# Altium footprint library Varistor.PcbLib: 15 footprints
Each footprint in its own frame and in the unit in brackets; x right, y up, seen from the top. Pads: shape width x height; smd on the part's side, far side on the other; paste and mask are expansions set on the pad; w line width, h text height; cw(c..) or ccw(c..) is an arc to the next point about the centre after c.
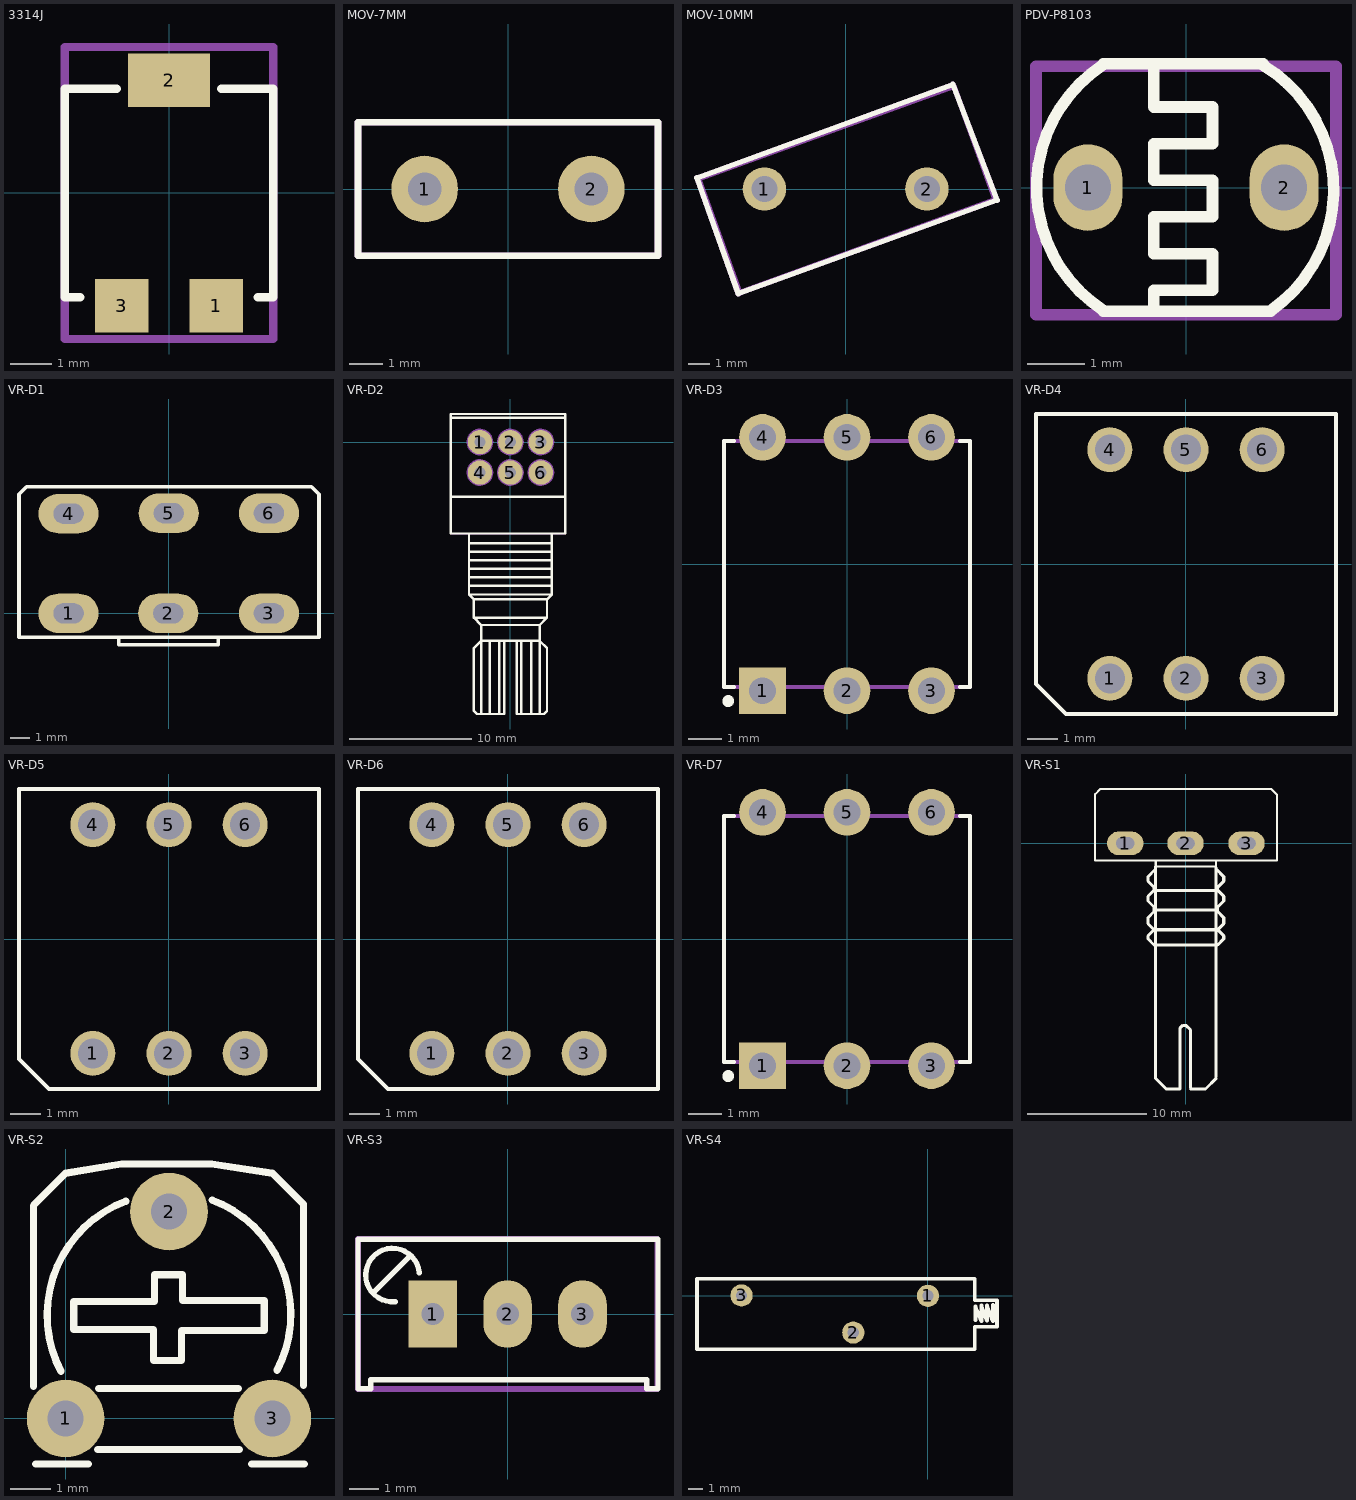
[diagram p0: the footprints below, top view; thin cyan lines are the x and y axes]

## 3314J [mm]
pads (3):
  rect 1.3x1.3 smd: 1(1.15,-2.75) 3(-1.15,-2.75)
  rect 2x1.3 smd: 2(0,2.75)
Top Overlay:
  lines w0.2: -2.159,-2.54 -2.54,-2.54 -2.54,2.54 -1.27,2.54 ; 1.27,2.54 2.54,2.54 2.54,-2.54 2.159,-2.54
Mechanical 13:
  lines w0.2: -2.54,-3.556 2.54,-3.556 2.54,3.556 -2.54,3.556 -2.54,-3.556
  text ".Designator" at -2.032,-0.254 h1.5
Mechanical 15:
  lines w0.2: -2.54,-3.556 -2.54,3.556 2.54,3.556 2.54,-3.556 -2.54,-3.556
  text ".Comment" at -2.032,-0.254 h1.5
3D body "3314J1.stp": height 2.9, standoff 0.18, extent -2.499,-2.502 2.5,2.502

## MOV-7MM [mm]
pads (2):
  round 2 hole 1: 1(-2.5,0) 2(2.5,0)
Top Overlay:
  lines w0.2: -4.5,-2 -4.5,2 4.5,2 4.5,-2 -4.5,-2
Mechanical 13:
  lines w0.2: -4.5,-2 4.5,-2 4.5,2 -4.5,2 -4.5,-2
  text ".Designator" at -4.3,-0.4 h2
3D body "mov-07d201k.stp": height 11.5, standoff -19.5, extent -4.637,-2.336 4.749,2.283

## MOV-10MM [mm]
pads (2):
  round 2 hole 1.2: 1(-3.75,0) 2(3.75,0)
Top Overlay:
  lines w0.254: -6.858,0.508 -4.953,-4.826 6.985,-0.508 4.953,4.826 -6.858,0.508
Mechanical 13:
  lines w0.254: -6.795,0.475 4.996,4.745 6.887,-0.483 -4.893,-4.784 ; -6.778,0.427 -4.886,-4.801
  text ".Designator" at -5.461,-0.762 h2
Mechanical 15:
  lines w0.254: -6.858,0.508 -4.953,-4.826 6.985,-0.508 4.953,4.826 -6.858,0.508
  text ".Comment" at -5.461,-0.762 h2
3D body "mov-10d511k.stp": height 15.75, standoff -19.75, extent -6.762,-4.766 6.865,4.678

## PDV-P8103 [mm]
pads (2):
  oval 1.2x1.5 hole 0.8: 1(-1.7,0) 2(1.7,0)
Top Overlay:
  lines w0.2: -1.435,-2.145 1.468,-2.145 ; -1.435,-2.128 cw(c-0.049,0) -1.435,2.128 ; -1.435,2.145 1.335,2.145 ; -0.557,-2.145 -0.557,-1.778 0.459,-1.778 0.459,-1.143 -0.557,-1.143 -0.557,-0.508 0.459,-0.508 0.459,0.127 -0.557,0.127 -0.557,0.762 0.459,0.762 0.459,1.397 -0.557,1.397 -0.557,2.145 ; 1.335,2.124 cw(c0.019,-0.049) 1.468,-2.135
Mechanical 13:
  lines w0.2: -2.6,-2.2 2.6,-2.2 2.6,2.1 -2.6,2.1 -2.6,-2.2
  text ".Designator" at -2.6,-0.5 h1.5
Mechanical 15:
  lines w0.2: -2.6,-2.2 -2.6,2.1 2.6,2.1 2.6,-2.2 -2.6,-2.2
  text ".Comment" at -2.6,-0.5 h1.5
3D body "User Library-Part7.step": height 2.24, standoff -2.5, extent -2.605,-2.2 2.605,2.1

## VR-D1 [mil] "Volume control Dual"
height 400
pads (6):
  oval 120x78.74 hole 40 slot 60 at 0 deg: 1(-200,0) 2(-1,0) 3(200,0) 4(-200,199) 5(0,200) 6(200,200)
Top Overlay:
  lines w7: -100,-48 -100,-63 99,-63 99,-48 ; -299,-48 -299,238 -284,253 285,253 300,238 300,-48 -299,-48
3D body "SW3dPS-ALPHA-potentiometer stereo PCB mount.STEP": height 834.65, standoff -129.92, extent -338.65,-1309.27 330.65,299

## VR-D2 [mm]
height 11.3
pads (6):
  round 2 hole 0.9: 1(-2.5,0) 2(0,0) 3(2.5,0) 4(-2.5,-2.5) 5(0,-2.5) 6(2.5,-2.5)
Top Overlay:
  lines w0.2: -4.9,-4.5 4.5,-4.5 ; -4.9,2 4.5,2 ; -3.4,-11.8 3.4,-11.8 3.4,-12.5 ; -3.4,-11.1 3.4,-11.1 ; -3.4,-10.4 3.4,-10.4 ; -3.4,-9.7 3.4,-9.7 ; -3.4,-9 3.4,-9 ; -3.4,-8.3 3.4,-8.3 ; -3.4,-7.5 -3.4,-12.5 ; -2.4,-22.3 -2.4,-16.3 ; -1.7,-22.3 -1.7,-16.3 ; -0.9,-22.3 -0.9,-16.3 ; -0.5,-16.3 -0.5,-22.3 -2.75,-22.3 -3,-22.05 -3,-16.9 -2.4,-16.3 ; 0.5,-16.3 0.5,-22.3 2.75,-22.3 3,-22.05 3,-16.9 2.4,-16.3 ; 0.9,-22.3 0.9,-16.3 ; 1.7,-22.3 1.7,-16.3 ; 2.4,-22.3 2.4,-16.3 ; 3.4,-7.5 3.4,-12.5 ; -3.4,-12.5 0,-12.5 3.4,-12.5 ; -3.4,-12.5 -3,-12.9 ; -3,-14.4 0,-14.4 3,-14.4 ; -3,-14.4 -3,-12.9 ; -3,-14.4 -2.4,-15 ; -3,-12.9 0,-12.9 3,-12.9 ; -2.4,-16.3 0,-16.3 2.4,-16.3 ; -2.4,-16.3 -2.4,-15 ; -2.4,-15 0,-15 2.4,-15 ; 2.4,-16.3 2.4,-15 ; 2.4,-15 3,-14.4 ; 3,-14.4 3,-12.9 ; 3,-12.9 3.4,-12.5 ; -4.9,-7.5 -4.9,2.3 4.5,2.3 4.5,-7.5 -4.9,-7.5
Mechanical 7:
  circle w0.2: c2.5,-2.5 r1
  circle w0.2: c0,-2.5 r1
  circle w0.2: c-2.5,-2.5 r1
  circle w0.2: c2.5,0 r1
  circle w0.2: c0,0 r1
  circle w0.2: c-2.5,0 r1
  lines w0.1: -4.9,-4.5 4.5,-4.5 ; -4.9,2 4.5,2 ; -3.4,-11.8 3.4,-11.8 3.4,-12.5 ; -3.4,-11.1 3.4,-11.1 ; -3.4,-10.4 3.4,-10.4 ; -3.4,-9.7 3.4,-9.7 ; -3.4,-9 3.4,-9 ; -3.4,-8.3 3.4,-8.3 ; -3.4,-7.5 -3.4,-12.5 ; -2.4,-22.3 -2.4,-16.3 ; -1.7,-22.3 -1.7,-16.3 ; -0.9,-22.3 -0.9,-16.3 ; -0.5,-16.3 -0.5,-22.3 -2.75,-22.3 -3,-22.05 -3,-16.9 -2.4,-16.3 ; 0.5,-16.3 0.5,-22.3 2.75,-22.3 3,-22.05 3,-16.9 2.4,-16.3 ; 0.9,-22.3 0.9,-16.3 ; 1.7,-22.3 1.7,-16.3 ; 2.4,-22.3 2.4,-16.3 ; 3.4,-7.5 3.4,-12.5 ; -3.4,-12.5 -3,-12.9 ; -3.4,-12.5 0,-12.5 3.4,-12.5 ; -3,-14.4 -2.4,-15 ; -3,-14.4 -3,-12.9 ; -3,-14.4 0,-14.4 3,-14.4 ; -3,-12.9 0,-12.9 3,-12.9 ; -2.4,-16.3 -2.4,-15 ; -2.4,-16.3 0,-16.3 2.4,-16.3 ; -2.4,-15 0,-15 2.4,-15 ; 2.4,-16.3 2.4,-15 ; 2.4,-15 3,-14.4 ; 3,-14.4 3,-12.9 ; 3,-12.9 3.4,-12.5 ; -4.9,-7.5 4.5,-7.5 4.5,2.3 -4.9,2.3 -4.9,-7.5
3D body "Potentiometer 2x5K Linear.stp": height 12.64, standoff -2.5, extent -5.73,-27.97 5.768,1.504

## VR-D3 [mm]
height 3.65
pads (6):
  rect 1.4x1.4 hole 0.8: 1(-2.54,-3.81)
  round 1.4 hole 0.8: 2(0,-3.81) 3(2.54,-3.81) 4(-2.54,3.81) 5(0,3.81) 6(2.54,3.81)
Top Overlay:
  circle w0.3: c-3.57,-4.12 r0.028
  lines w0.127: -3.4,-3.7 -3.7,-3.7 -3.7,3.7 -3.4,3.7 ; 3.4,-3.7 3.7,-3.7 3.7,3.7 3.4,3.7 ; -3.4,3.7 -3.4,3.7 ; 3.4,3.7 3.4,3.7
Mechanical 13:
  lines w0.127: -3.7,-3.7 -3.7,3.7 3.7,3.7 3.7,-3.7 -3.7,-3.7
3D body "42854732091x_10 Position.stp": height 3.74, standoff -3.46, extent -3.7,-3.935 3.7,3.935

## VR-D4 [mm]
height 6.5
pads (6):
  round 1.5 hole 1: 1(-2.54,-3.81) 2(0,-3.81) 3(2.54,-3.81) 4(-2.54,3.81) 5(0,3.81) 6(2.54,3.81)
Top Overlay:
  lines w0.127: -5,5 5,5 ; -5,5 5,5 ; -5,5 -5,-4 -4,-5 5,-5 ; 5,-5 5,5 ; 5,-5 5,5
3D body "42852752091x_16_Pos.stp": height 6.51, standoff -3.79, extent -5,-5 5,5

## VR-D5 [mm]
height 13.8
pads (6):
  round 1.5 hole 1: 1(-2.54,-3.81) 2(0,-3.81) 3(2.54,-3.81) 4(-2.54,3.81) 5(0,3.81) 6(2.54,3.81)
Top Overlay:
  lines w0.127: -5,5 5,5 ; -5,5 5,5 ; -5,5 -5,-4 -4,-5 5,-5 ; 5,-5 5,5 ; 5,-5 5,5
3D body "42852742091x_16_Pos.stp": height 13.81, standoff -3.79, extent -5,-5 5,5

## VR-D6 [mm]
height 6.5
pads (6):
  round 1.5 hole 1: 1(-2.54,-3.81) 2(0,-3.81) 3(2.54,-3.81) 4(-2.54,3.81) 5(0,3.81) 6(2.54,3.81)
Top Overlay:
  lines w0.127: -5,-4 -4,-5 5,-5 5,5 -5,5 -5,-4
3D body "42852732091x_16_Pos.stp": height 6.51, standoff -3.79, extent -5,-5 5,5

## VR-D7 [mm] "7*7mm, 10 position, 2.54mm, horizontal type, THT, Round  Arrow type, red actuator, real code, Tube"
height 3.65
pads (6):
  rect 1.4x1.4 hole 0.8: 1(-2.54,-3.81)
  round 1.4 hole 0.8: 2(0,-3.81) 3(2.54,-3.81) 4(-2.54,3.81) 5(0,3.81) 6(2.54,3.81)
Top Overlay:
  circle w0.3: c-3.57,-4.12 r0.028
  lines w0.127: -3.4,-3.7 -3.7,-3.7 -3.7,3.7 -3.4,3.7 ; 3.4,-3.7 3.7,-3.7 3.7,3.7 3.4,3.7 ; -3.4,3.7 -3.4,3.7 ; 3.4,3.7 3.4,3.7
Mechanical 13:
  lines w0.127: -3.7,-3.7 3.7,-3.7 3.7,3.7 -3.7,3.7 -3.7,-3.7
3D body "42854732091x_16 Position.stp": height 3.74, standoff -3.46, extent -3.7,-3.935 3.7,3.935

## VR-S1 [mil]
pads (3):
  oval 120x78.74 hole 40 slot 60 at 0 deg: 1(-200,0) 2(-1,0) 3(200,0)
Top Overlay:
  lines w7: -100,-57 -100,-77 99,-77 99,-57 ; -99,-77 -99,-57 ; -299,-57 -299,162 -282,179 282,179 300,161 300,-57 -299,-57
  lines w10: -105,-335 -125,-315 -125,-305 -105,-285 -125,-265 -125,-245 -105,-225 -105,-210 -125,-190 -125,-175 -105,-155 -105,-145 -125,-125 -125,-110 -100,-85 ; -105,-220 100,-220 ; -100,-770 -100,-77 ; -100,-760 -100,-775 -65,-810 -20,-810 -20,-610 -10,-600 0,-600 15,-615 15,-805 ; -100,-335 105,-335 125,-315 125,-305 105,-285 ; -100,-285 105,-285 ; -95,-155 100,-155 ; 15,-810 65,-810 100,-775 ; 100,-770 100,-80 ; 100,-85 125,-110 125,-125 105,-145 105,-155 125,-175 125,-190 105,-210 105,-225 125,-245 125,-265 105,-285
3D body "SW3dPS-Pot.STEP": height 839.35, standoff -130, extent -310,-818.11 310,188.11

## VR-S2 [mil] "Resistor Variable"
height 200
pads (3):
  round 75 hole 35: 1(0,0) 2(100,200) 3(200,0)
Top Overlay:
  lines w7: -31,31 -31,206 0,237 54,246 141.5,246 200,237 230,207 230,32 ; -29,-44 22,-44 ; -4.35,45.34 cw(c100,100) 58.1,210.1 ; 8,113 8,86 85,86 85,56 112,56 112,85 192,85 192,114 113,114 113,139 86,139 86,113 9,113 ; 31,-30 168,-30 ; 32,29 167,29 ; 141.9,211.1 cw(c100,101) 204.35,46.34 ; 180,-44 231,-44
3D body "User Library-Pot - RES_VAR1.STEP": height 298.74, standoff -130.39, extent -22.95,-49.69 232.95,227.87

## VR-S3 [mil] "Variable Resistor"
height 400
pads (3):
  rect 65x90 hole 30: 1(-100,0)
  oval 65x90 hole 30: 2(0,0) 3(100,0)
Top Overlay:
  lines w7: -180,28 -130,78 ; -150.15,16.43 cw(c-153.79,52.05) -118.12,55.16 ; -200,-100 -183,-100 -183,-88 186,-88 186,-100 201,-100 201,100 -200,100 -200,-100
Mechanical 13:
  lines w7.87: -200,-100 200,-100 200,100 -200,100 -200,-100
  text ".Designator" at -145,-25 h59.06
Mechanical 15:
  lines w7.87: -200,-100 -200,100 200,100 200,-100 -200,-100
  text ".Comment" at -145,-15 h59.06
3D body "trimmerpoti.SLDPRT": height 429.51, standoff -190.17, extent -190.94,-98.19 190.94,90

## VR-S4 [mil]
pads (3):
  round 60 hole 30: 1(0,0) 2(-201,-99) 3(-502,1)
Top Overlay:
  lines w10: 125,46 -622,46 -622,-144 125,-144 126,-144 126,-83 186,-83 186,-12 126,-12 126,46 ; 128,-66 128,-29 144,-68 144,-26 159,-67 159,-26 175,-68 175,-25
3D body "Trimmer_L_10K.STEP": height 250.6, standoff -209.24, extent -621.92,-144 187.92,46.16